# EAGLE library part TA_DK (library print-key)
Switch through-hole / Taster durchkontaktiert
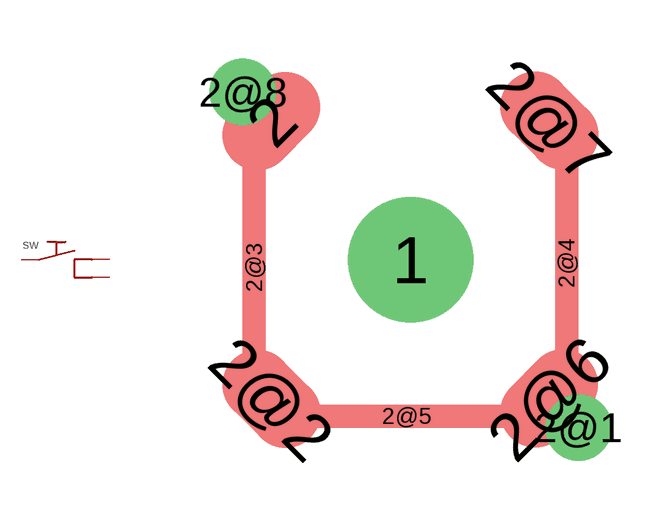
[diagram p2: symbol with the pads of TA_DK; footprint TA_DK]

Designator prefix SW

## TA_DK  [TA_DK]
1  1  in
2  2  in
2@1  2  in
2@2  2  in
2@3  2  in
2@4  2  in
2@5  2  in
2@6  2  in
2@7  2  in
2@8  2  in

## Footprint TA_DK (pad centres in mm)
Taster Durchkontaktiert Switch through-hole
drill 1.1 pad 3.2 round: 1 0,0
smd 1.8 x 2.8 rotated 135: 2 -3.558,3.538; 2@6 3.534,-3.541
drill 1.1 pad 1.7 round: 2@1 4.282,-4.282; 2@8 -4.282,4.282
smd 1.8 x 2.8 rotated 45: 2@2 -3.552,-3.551; 2@7 3.537,3.552
smd 0.6 x 6: 2@3 -3.994,-0.189; 2@4 3.98,-0.082
smd 6 x 0.6: 2@5 -0.099,-3.994